# Altium footprint library HY2213.PcbLib: 1 footprints
Each footprint in its own frame and in the unit in brackets; x right, y up, seen from the top. Pads: shape width x height; smd on the part's side, far side on the other; paste and mask are expansions set on the pad; w line width, h text height; cw(c..) or ccw(c..) is an arc to the next point about the centre after c.
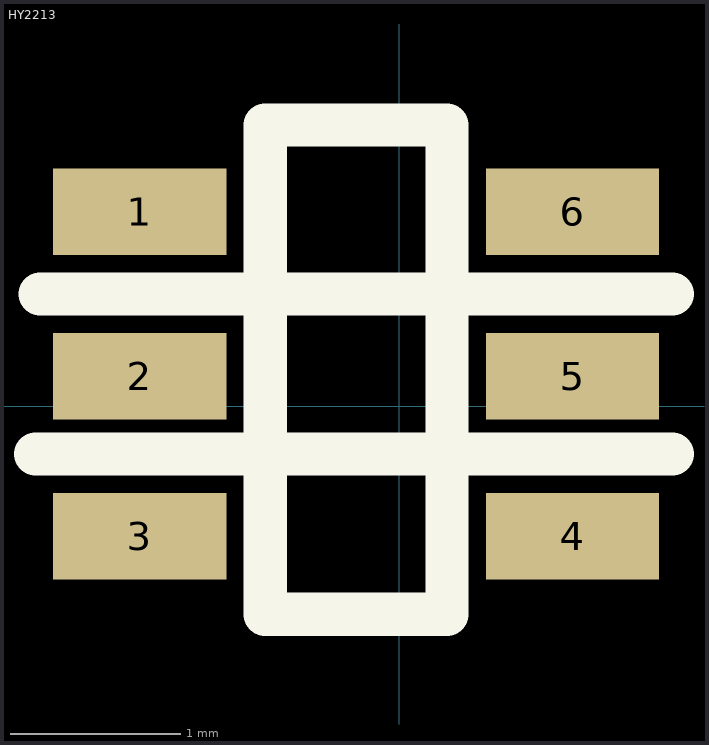
[diagram p0: the footprint, top view; thin cyan lines are the x and y axes]

## HY2213 [mil]
pads (6):
  rect 40x20 smd: 1(-60,45) 2(-60,7) 3(-60,-30) 4(40,-30) 5(40,7) 6(40,45)
Top Overlay:
  lines w10: -84,-11 63,-11 ; -83,26 63,26 ; -31,-48 11,-48 11,65 -31,65 -31,-48
3D body "DBV0006A.stp": height 47.24, standoff 0, extent -65.24,-49.17 45,65